# Altium footprint library Button_Switch_SMD.PcbLib: 148 footprints (part 7 of 10)
Each footprint in its own frame and in the unit in brackets; x right, y up, seen from the top. Pads: shape width x height; smd on the part's side, far side on the other; paste and mask are expansions set on the pad; w line width, h text height; cw(c..) or ccw(c..) is an arc to the next point about the centre after c.
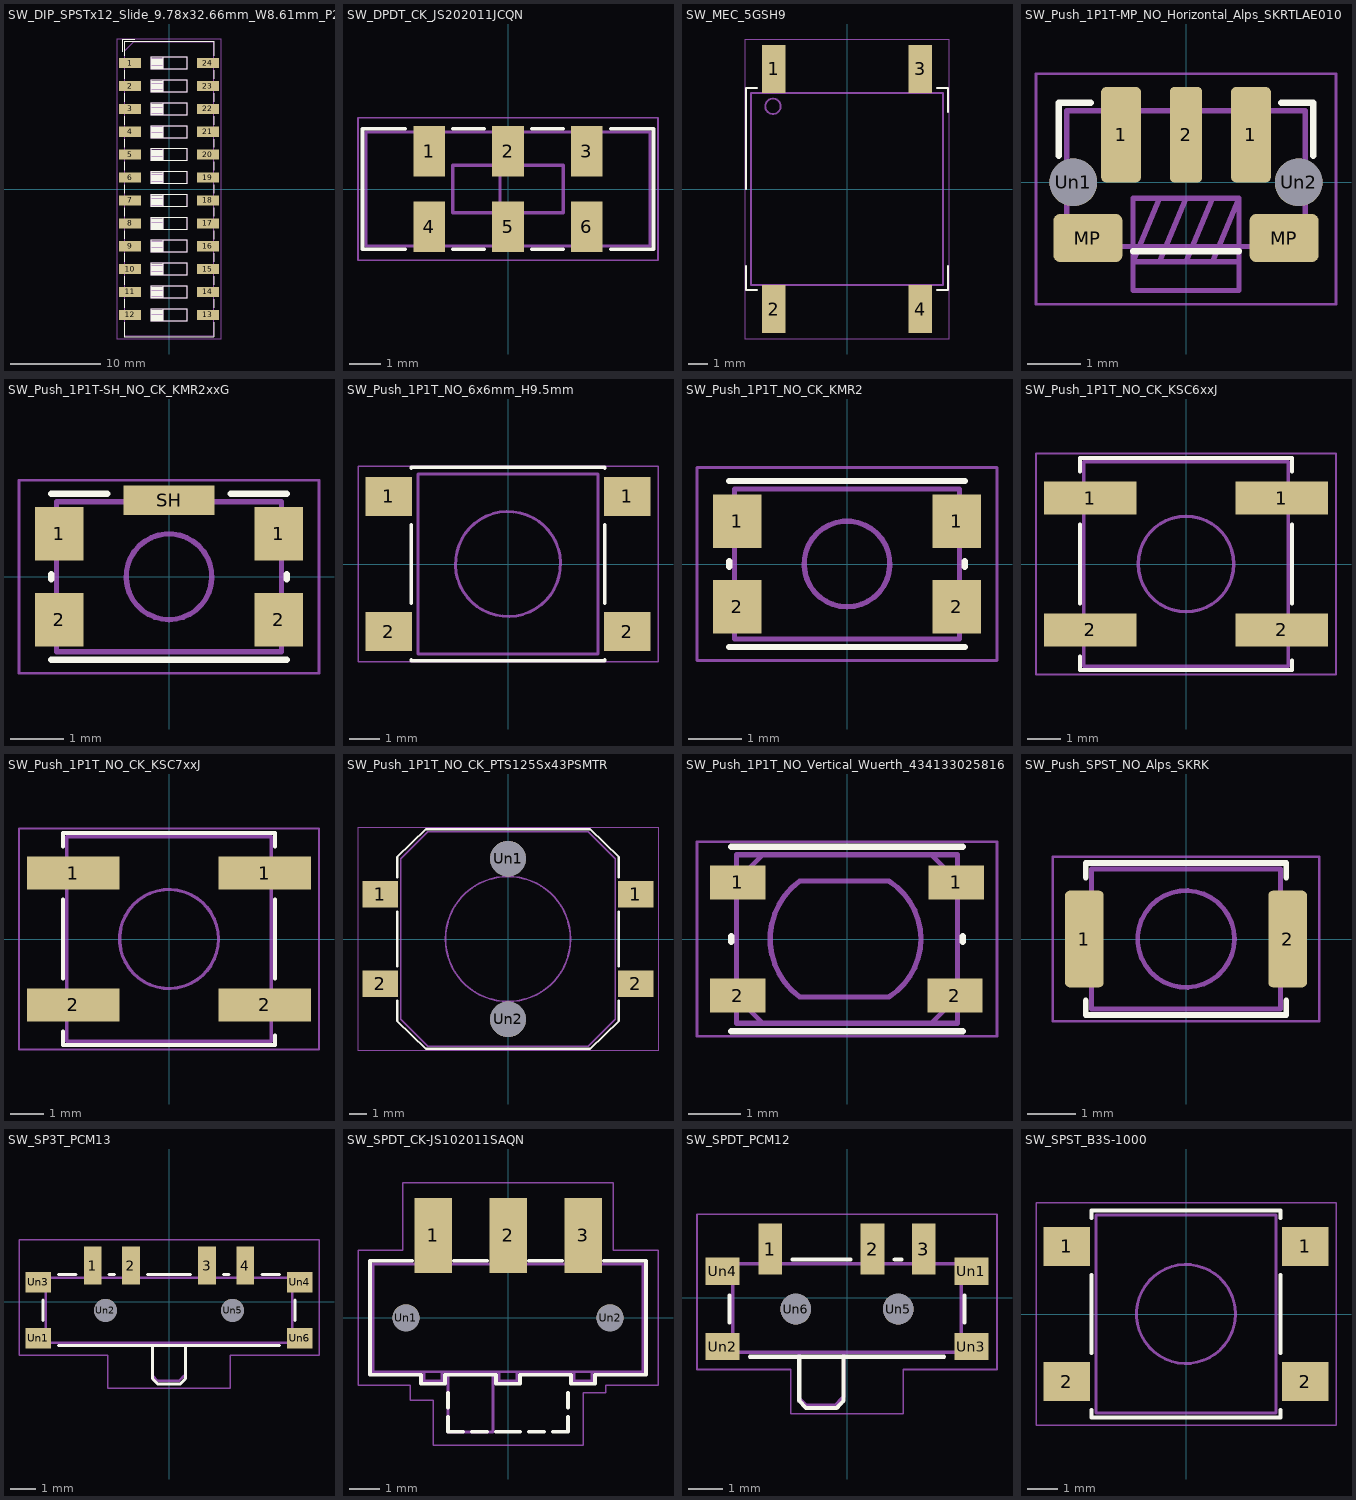
[diagram p6: the footprints below, top view; thin cyan lines are the x and y axes]

## SW_DIP_SPSTx12_Slide_9.78x32.66mm_W8.61mm_P2.54mm [mm]
pads (24):
  rect 2.44x1.12 smd: 1(-4.305,13.97) 2(-4.305,11.43) 3(-4.305,8.89) 4(-4.305,6.35) 5(-4.305,3.81) 6(-4.305,1.27) 7(-4.305,-1.27) 8(-4.305,-3.81) 9(-4.305,-6.35) 10(-4.305,-8.89) 11(-4.305,-11.43) 12(-4.305,-13.97) 13(4.305,-13.97) 14(4.305,-11.43) 15(4.305,-8.89) 16(4.305,-6.35) 17(4.305,-3.81) 18(4.305,-1.27) 19(4.305,1.27) 20(4.305,3.81) 21(4.305,6.35) 22(4.305,8.89) 23(4.305,11.43) 24(4.305,13.97)
F.SilkS:
  drawing of 210 lines, arcs and shapes, not listed
F.CrtYd:
  lines w0.05: -5.8,-16.65 5.8,-16.65 5.8,16.65 -5.8,16.65 -5.8,-16.65
F.Fab:
  drawing of 209 lines, arcs and shapes, not listed
  text "'.Designator'" at 4.132,-3.237 h0.8
  text "on" at 0.643,15.081 h0.8

## SW_DPDT_CK_JS202011JCQN [mm]
pads (6):
  rect 1x1.6 smd: 1(-2.5,1.2) 2(0,1.2) 3(2.5,1.2) 4(-2.5,-1.2) 5(0,-1.2) 6(2.5,-1.2)
F.SilkS:
  lines w0.12: -3.26,-1.91 -4.61,-1.91 -4.61,1.91 -3.26,1.91 ; -1.74,-1.91 -0.76,-1.91 ; -1.74,1.91 -0.76,1.91 ; 0.76,-1.91 1.74,-1.91 ; 0.76,1.91 1.74,1.91 ; 3.26,-1.91 4.61,-1.91 4.61,1.91 3.26,1.91
F.CrtYd:
  lines w0.05: -4.75,-2.25 -4.75,2.25 4.75,2.25 4.75,-2.25 -4.75,-2.25
F.Fab:
  lines w0.1: -0.25,-0.75 -0.25,0.75 ; -4.5,-1.8 4.5,-1.8 4.5,1.8 -4.5,1.8 -4.5,-1.8 ; -1.75,-0.75 -1.75,0.75 1.75,0.75 1.75,-0.75 -1.75,-0.75
  text "'.Designator'" at -4.047,2.21 h1

## SW_MEC_5GSH9 [mm]
pads (4):
  rect 1.2x2.5 smd: 1(-3.81,6.25) 2(-3.81,-6.25) 3(3.81,6.25) 4(3.81,-6.25)
F.SilkS:
  lines w0.12: -5.25,-4 -5.25,-5.25 -4.7,-5.25 ; -5.25,0 -5.25,5.25 -4.7,5.25 ; 4.7,-5.25 5.25,-5.25 5.25,-4 ; 4.7,5.25 5.25,5.25 5.25,4
F.CrtYd:
  lines w0.05: -5.3,-7.8 -5.3,7.8 5.3,7.8 5.3,-7.8 -5.3,-7.8
F.Fab:
  circle w0.1: c-3.85,4.3 r0.4
  lines w0.1: -5,-5 -5,5 5,5 5,-5 -5,-5
  text "'.Designator'" at -4.047,-0.84 h1

## SW_Push_1P1T-MP_NO_Horizontal_Alps_SKRTLAE010 [mm]
pads (7):
  rrect25% 0.75x1.8 smd: 1(-1.225,0.9) 1(1.225,0.9)
  rrect25% 0.6x1.8 smd: 2(0,0.9)
  rrect25% 1.3x0.9 smd: MP(-1.85,-1.05) MP(1.85,-1.05)
  round 0.9 hole 0.9: Un1(-2.125,0) Un2(2.125,0)
F.SilkS:
  lines w0.12: -2.4,0.5 -2.4,1.5 -1.8,1.5 ; -1,-1.3 1,-1.3 ; 1.8,1.5 2.4,1.5 2.4,0.5
Dwgs.User:
  lines w0.1: -0.5,-1.5 0,-0.3 ; -0.5,-0.3 -1,-1.5 ; 0,-1.5 0.5,-0.3 ; 0.5,-1.5 1,-0.3 ; -1,-1.5 1,-1.5 1,-0.3 ; -1,-1.5 -1,-0.3 1,-0.3
F.CrtYd:
  lines w0.05: -2.83,-2.3 -2.83,2.05 2.83,2.05 2.83,-2.3 -2.83,-2.3
F.Fab:
  lines w0.1: -1,-1.21 -1,-2.04 1,-2.04 1,-1.21 ; -2.25,-1.21 2.25,-1.21 2.25,1.35 -2.25,1.35 -2.25,-1.21
  text "'.Designator'" at -4.047,-0.84 h1

## SW_Push_1P1T-SH_NO_CK_KMR2xxG [mm]
pads (5):
  rect 0.9x1 smd: 1(-2.05,0.8) 1(2.05,0.8) 2(-2.05,-0.8) 2(2.05,-0.8)
  rect 1.7x0.55 smd: SH(0,1.425)
F.SilkS:
  lines w0.12: -2.2,-1.55 2.2,-1.55 ; -2.2,-0.05 -2.2,0.05 ; -2.2,1.55 -1.15,1.55 ; 1.15,1.55 2.2,1.55 ; 2.2,-0.05 2.2,0.05
F.CrtYd:
  lines w0.05: -2.8,-1.8 2.8,-1.8 2.8,1.8 -2.8,1.8 -2.8,-1.8
F.Fab:
  circle w0.1: c0,0 r0.8
  lines w0.1: -2.1,-1.4 2.1,-1.4 2.1,1.4 -2.1,1.4 -2.1,-1.4
  text "'.Designator'" at -4.047,1.61 h1

## SW_Push_1P1T_NO_6x6mm_H9.5mm [mm]
pads (4):
  rect 1.55x1.3 smd: 1(-3.975,2.25) 1(3.975,2.25) 2(-3.975,-2.25) 2(3.975,-2.25)
F.SilkS:
  lines w0.12: -3.23,-3.2 -3.23,-3.23 3.23,-3.23 3.23,-3.2 ; -3.23,-1.3 -3.23,1.3 ; -3.23,3.2 -3.23,3.23 3.23,3.23 3.23,3.2 ; 3.23,-1.3 3.23,1.3
F.CrtYd:
  lines w0.05: -5,-3.25 -5,3.25 5,3.25 5,-3.25 -5,-3.25
F.Fab:
  circle w0.1: c0,0 r1.751
  lines w0.1: -3,-3 -3,3 3,3 3,-3 -3,-3
  text "'.Designator'" at -4.047,3.21 h1

## SW_Push_1P1T_NO_CK_KMR2 [mm]
pads (4):
  rect 0.9x1 smd: 1(-2.05,0.8) 1(2.05,0.8) 2(-2.05,-0.8) 2(2.05,-0.8)
F.SilkS:
  lines w0.12: -2.2,-1.55 2.2,-1.55 ; -2.2,-0.05 -2.2,0.05 ; -2.2,1.55 2.2,1.55 ; 2.2,-0.05 2.2,0.05
F.CrtYd:
  lines w0.05: -2.8,-1.8 2.8,-1.8 2.8,1.8 -2.8,1.8 -2.8,-1.8
F.Fab:
  circle w0.1: c0,0 r0.8
  lines w0.1: -2.1,-1.4 -2.1,1.4 2.1,1.4 2.1,-1.4 -2.1,-1.4
  text "'.Designator'" at -4.047,1.61 h1

## SW_Push_1P1T_NO_CK_KSC6xxJ [mm]
pads (4):
  rect 2.8x1 smd: 1(-2.9,2) 1(2.9,2) 2(-2.9,-2) 2(2.9,-2)
F.SilkS:
  lines w0.12: -3.21,-2.8 -3.21,-3.21 3.21,-3.21 3.21,-2.93 ; -3.21,-1.2 -3.21,1.2 ; -3.21,2.8 -3.21,3.21 3.21,3.21 3.21,2.8 ; 3.21,-1.2 3.21,1.2
F.CrtYd:
  lines w0.05: -4.55,-3.35 -4.55,3.35 4.55,3.35 4.55,-3.35 -4.55,-3.35
F.Fab:
  circle w0.1: c0,0 r1.45
  lines w0.1: -3.1,-3.1 3.1,-3.1 3.1,3.1 -3.1,3.1 -3.1,-3.1
  text "'.Designator'" at -4.047,-0.84 h1

## SW_Push_1P1T_NO_CK_KSC7xxJ [mm]
pads (4):
  rect 2.8x1 smd: 1(-2.9,2) 1(2.9,2) 2(-2.9,-2) 2(2.9,-2)
F.SilkS:
  lines w0.12: -3.21,-2.8 -3.21,-3.21 3.21,-3.21 3.21,-2.93 ; -3.21,-1.2 -3.21,1.2 ; -3.21,2.8 -3.21,3.21 3.21,3.21 3.21,2.8 ; 3.21,-1.2 3.21,1.2
F.CrtYd:
  lines w0.05: -4.55,-3.35 4.55,-3.35 4.55,3.35 -4.55,3.35 -4.55,-3.35
F.Fab:
  circle w0.1: c0,0 r1.5
  lines w0.1: -3.1,-3.1 -3.1,3.1 3.1,3.1 3.1,-3.1 -3.1,-3.1
  text "'.Designator'" at -4.047,-0.84 h1

## SW_Push_1P1T_NO_CK_PTS125Sx43PSMTR [mm]
pads (6):
  rect 2x1.5 smd: 1(-7.15,2.5) 1(7.15,2.5) 2(-7.15,-2.5) 2(7.15,-2.5)
  round 2 hole 2: Un1(0,4.5) Un2(0,-4.5)
F.SilkS:
  lines w0.12: -6.2,-3.45 -6.2,-4.6 -4.6,-6.15 4.6,-6.15 6.2,-4.6 6.2,-3.45 ; -6.2,-1.55 -6.2,1.55 ; -6.2,3.45 -6.2,4.6 -4.6,6.15 4.6,6.15 6.2,4.6 6.2,3.45 ; 6.2,-1.55 6.2,1.55
F.CrtYd:
  lines w0.05: -8.4,-6.25 -8.4,6.25 8.4,6.25 8.4,-6.25 -8.4,-6.25
F.Fab:
  circle w0.1: c0,0 r3.5
  lines w0.1: -6,-4.5 -6,4.5 -4.5,6 4.5,6 6,4.5 6,-4.5 4.5,-6 -4.5,-6 -6,-4.5
  text "'.Designator'" at -4.047,-0.84 h1

## SW_Push_1P1T_NO_Vertical_Wuerth_434133025816 [mm]
pads (4):
  rect 1.05x0.65 smd: 1(-2.075,1.075) 1(2.075,1.075) 2(-2.075,-1.075) 2(2.05,-1.075)
F.SilkS:
  lines w0.12: -2.2,-1.75 2.2,-1.75 ; -2.2,-0.05 -2.2,0.05 ; -2.2,1.75 2.2,1.75 ; 2.2,-0.05 2.2,0.05
F.CrtYd:
  lines w0.05: -2.85,-1.85 2.85,-1.85 2.85,1.85 -2.85,1.85 -2.85,-1.85
F.Fab:
  lines w0.1: -2.1,-1.1 -1.6,-1.6 ; -2.1,1.1 -1.6,1.6 ; 1.6,-1.6 2.1,-1.1 ; 1.6,1.6 2.1,1.1 ; -2.1,-1.6 2.1,-1.6 2.1,1.6 -2.1,1.6 -2.1,-1.6 ; -0.9,-1.1 0.8,-1.1 ccw(c0.1,0) 0.8,1.1 -0.9,1.1 ccw(c-0.1,0) -0.9,-1.1
  text "'.Designator'" at -3.997,-0.84 h1

## SW_Push_SPST_NO_Alps_SKRK [mm]
pads (2):
  rrect25% 0.8x2 smd: 1(-2.1,0) 2(2.1,0)
F.SilkS:
  lines w0.12: -2.07,-1.27 -2.07,-1.57 2.07,-1.57 2.07,-1.27 ; -2.07,1.27 -2.07,1.57 2.07,1.57 2.07,1.27
F.CrtYd:
  lines w0.05: -2.75,-1.7 -2.75,1.7 2.75,1.7 2.75,-1.7 -2.75,-1.7
F.Fab:
  circle w0.1: c0,0 r1
  lines w0.1: -1.95,-1.45 -1.95,1.45 1.95,1.45 1.95,-1.45 -1.95,-1.45
  text "'.Designator'" at -4.047,-0.84 h1

## SW_SP3T_PCM13 [mm]
pads (10):
  rect 0.7x1.5 smd: 1(-3,1.43) 2(-1.5,1.43) 3(1.5,1.43) 4(3,1.43)
  rect 1x0.8 smd: Un1(-5.15,-1.43) Un3(-5.15,0.78) Un4(5.15,0.78) Un6(5.15,-1.43)
  round 0.9 hole 0.9: Un2(-2.5,-0.33) Un5(2.5,-0.33)
F.SilkS:
  lines w0.12: -4.95,-0.72 -4.95,0.07 ; -4.35,-1.72 4.35,-1.72 ; -4.35,1.07 -3.65,1.07 ; -2.35,1.07 -2.15,1.07 ; -0.85,1.07 0.85,1.07 ; -0.65,-1.72 -0.65,-3.02 -0.45,-3.22 0.45,-3.22 0.65,-3.02 0.65,-1.72 ; 2.15,1.07 2.35,1.07 ; 3.65,1.07 4.35,1.07 ; 4.95,-0.72 4.95,0.07
F.CrtYd:
  lines w0.05: -5.9,-2.1 -5.9,2.45 5.9,2.45 5.9,-2.1 2.4,-2.1 2.4,-3.4 -2.4,-3.4 -2.4,-2.1 -5.9,-2.1
F.Fab:
  lines w0.1: -4.85,-1.6 -4.85,0.95 4.85,0.95 4.85,-1.6 -4.8,-1.6 ; -0.65,-1.6 -0.65,-2.9 -0.45,-3.1 0.4,-3.1 0.55,-2.95 0.65,-2.85 0.65,-1.6
  text "'.Designator'" at -4.047,2.36 h1

## SW_SPDT_CK-JS102011SAQN [mm]
pads (5):
  rect 1.25x2.5 smd: 1(-2.5,2.75) 2(0,2.75) 3(2.5,2.75)
  round 0.9 hole 0.9: Un1(-3.4,0) Un2(3.4,0)
F.SilkS:
  lines w0.12: -3.2,1.9 -4.6,1.9 -4.6,-1.9 -2.9,-1.9 -2.9,-2.2 -2.1,-2.2 -2.1,-1.9 -0.4,-1.9 -0.4,-2.2 0.4,-2.2 0.4,-1.9 2.1,-1.9 2.1,-2.2 2.9,-2.2 2.9,-1.9 4.6,-1.9 4.6,1.9 3.2,1.9 ; -2,-3.3 -2,-3.8 -1.5,-3.8 ; -2,-3 -2,-2.5 ; -1.8,1.9 -0.7,1.9 ; -1.2,-3.8 -0.7,-3.8 ; -0.4,-3.8 0.4,-3.8 ; 0.7,-3.8 1.2,-3.8 ; 0.7,1.9 1.8,1.9 ; 1.5,-3.8 2,-3.8 2,-3.3 ; 2,-3 2,-2.5
F.CrtYd:
  lines w0.05: -5,-2.25 -5,2.25 -3.5,2.25 -3.5,4.5 3.5,4.5 3.5,2.25 5,2.25 5,-2.25 3.25,-2.25 3.25,-2.5 2.5,-2.5 2.5,-4.25 -2.5,-4.25 -2.5,-2.75 -3.25,-2.75 -3.25,-2.25 -5,-2.25
F.Fab:
  lines w0.1: -2.8,-1.8 -2.8,-2.1 -2.2,-2.1 -2.2,-1.8 ; -2,-1.8 -2,-3.8 -0.5,-3.8 -0.5,-1.8 ; -0.3,-1.8 -0.3,-2.1 0.3,-2.1 0.3,-1.8 ; 2.2,-1.8 2.2,-2.1 2.8,-2.1 2.8,-1.8 ; -4.5,-1.8 -4.4,-1.8 4.5,-1.8 4.5,1.8 -4.5,1.8 -4.5,-1.8
  text "'.Designator'" at -4.047,-0.84 h1

## SW_SPDT_PCM12 [mm]
pads (9):
  rect 0.7x1.5 smd: 1(-2.25,1.43) 2(0.75,1.43) 3(2.25,1.43)
  rect 1x0.8 smd: Un1(3.65,0.78) Un2(-3.65,-1.43) Un3(3.65,-1.43) Un4(-3.65,0.78)
  round 0.9 hole 0.9: Un5(1.5,-0.33) Un6(-1.5,-0.33)
F.SilkS:
  lines w0.12: -3.45,-0.72 -3.45,0.07 ; -2.85,-1.73 2.85,-1.73 ; -1.6,1.12 0.1,1.12 ; -1.4,-1.73 -1.4,-3.02 -1.2,-3.23 -0.3,-3.23 -0.1,-3.02 -0.1,-1.73 ; 1.4,1.12 1.6,1.12 ; 3.45,-0.72 3.45,0.07
F.CrtYd:
  lines w0.05: -4.4,-2.1 -4.4,2.45 4.4,2.45 4.4,-2.1 1.65,-2.1 1.65,-3.4 -1.65,-3.4 -1.65,-2.1 -4.4,-2.1
F.Fab:
  lines w0.1: -1.4,-1.65 -1.4,-2.95 -1.2,-3.15 -0.35,-3.15 -0.15,-2.95 -0.1,-2.9 -0.1,-1.6 ; -3.35,-1.6 -3.35,1 3.35,1 3.35,-1.6 -3.35,-1.6
  text "'.Designator'" at -4.047,2.36 h1

## SW_SPST_B3S-1000 [mm]
pads (4):
  rect 1.55x1.3 smd: 1(-3.975,2.25) 1(3.975,2.25) 2(-3.975,-2.25) 2(3.975,-2.25)
F.SilkS:
  lines w0.12: -3.15,-3.2 -3.15,-3.45 3.15,-3.45 3.15,-3.2 ; -3.15,-1.3 -3.15,1.3 ; -3.15,3.2 -3.15,3.45 3.15,3.45 3.15,3.2 ; 3.15,-1.3 3.15,1.3
F.CrtYd:
  lines w0.05: -5,-3.7 -5,3.7 5,3.7 5,-3.7 -5,-3.7
F.Fab:
  circle w0.1: c0,0 r1.65
  lines w0.1: -3,-3.3 -3,3.3 3,3.3 3,-3.3 -3,-3.3
  text "'.Designator'" at -4.047,3.66 h1